# Altium footprint library LPC4300.PCBLIB: 5 footprints
Each footprint in its own frame and in the unit in brackets; x right, y up, seen from the top. Pads: shape width x height; smd on the part's side, far side on the other; paste and mask are expansions set on the pad; w line width, h text height; cw(c..) or ccw(c..) is an arc to the next point about the centre after c.
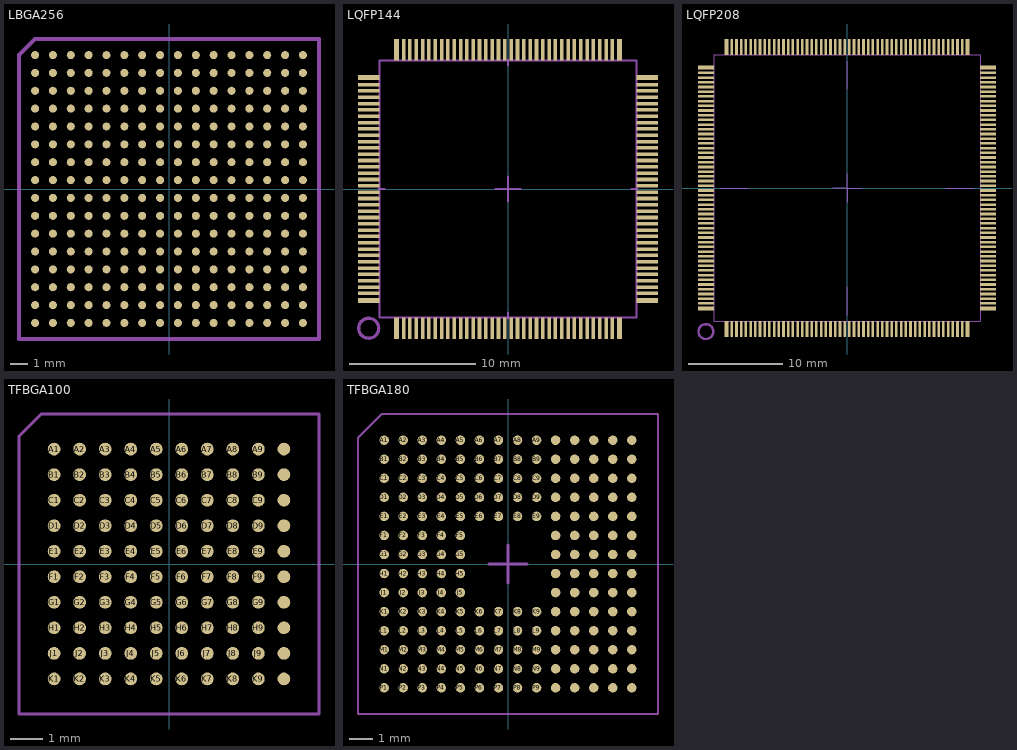
[diagram p0: the footprints below, top view; thin cyan lines are the x and y axes]

## LBGA256 [mm]
pads (256):
  rrect100% 0.45x0.45 smd: A1(-7.5,7.5) A2(-6.5,7.5) A3(-5.5,7.5) A4(-4.5,7.5) A5(-3.5,7.5) A6(-2.5,7.5) A7(-1.5,7.5) A8(-0.5,7.5) A9(0.5,7.5) A10(1.5,7.5) A11(2.5,7.5) A12(3.5,7.5) A13(4.5,7.5) A14(5.5,7.5) A15(6.5,7.5) A16(7.5,7.5) B1(-7.5,6.5) B2(-6.5,6.5) B3(-5.5,6.5) B4(-4.5,6.5) B5(-3.5,6.5) B6(-2.5,6.5) B7(-1.5,6.5) B8(-0.5,6.5) B9(0.5,6.5) B10(1.5,6.5) B11(2.5,6.5) B12(3.5,6.5) B13(4.5,6.5) B14(5.5,6.5) B15(6.5,6.5) B16(7.5,6.5) C1(-7.5,5.5) C2(-6.5,5.5) C3(-5.5,5.5) C4(-4.5,5.5) C5(-3.5,5.5) C6(-2.5,5.5) C7(-1.5,5.5) C8(-0.5,5.5) C9(0.5,5.5) C10(1.5,5.5) C11(2.5,5.5) C12(3.5,5.5) C13(4.5,5.5) C14(5.5,5.5) C15(6.5,5.5) C16(7.5,5.5) D1(-7.5,4.5) D2(-6.5,4.5) D3(-5.5,4.5) D4(-4.5,4.5) D5(-3.5,4.5) D6(-2.5,4.5) D7(-1.5,4.5) D8(-0.5,4.5) D9(0.5,4.5) D10(1.5,4.5) D11(2.5,4.5) D12(3.5,4.5) D13(4.5,4.5) D14(5.5,4.5) D15(6.5,4.5) D16(7.5,4.5) E1(-7.5,3.5) E2(-6.5,3.5) E3(-5.5,3.5) E4(-4.5,3.5) E5(-3.5,3.5) E6(-2.5,3.5) E7(-1.5,3.5) E8(-0.5,3.5) E9(0.5,3.5) E10(1.5,3.5) E11(2.5,3.5) E12(3.5,3.5) E13(4.5,3.5) E14(5.5,3.5) E15(6.5,3.5) E16(7.5,3.5) F1(-7.5,2.5) F2(-6.5,2.5) F3(-5.5,2.5) F4(-4.5,2.5) F5(-3.5,2.5) F6(-2.5,2.5) F7(-1.5,2.5) F8(-0.5,2.5) F9(0.5,2.5) F10(1.5,2.5) F11(2.5,2.5) F12(3.5,2.5) F13(4.5,2.5) F14(5.5,2.5) F15(6.5,2.5) F16(7.5,2.5) G1(-7.5,1.5) G2(-6.5,1.5) G3(-5.5,1.5) G4(-4.5,1.5) G5(-3.5,1.5) G6(-2.5,1.5) G7(-1.5,1.5) G8(-0.5,1.5) G9(0.5,1.5) G10(1.5,1.5) G11(2.5,1.5) G12(3.5,1.5) G13(4.5,1.5) G14(5.5,1.5) G15(6.5,1.5) G16(7.5,1.5) H1(-7.5,0.5) H2(-6.5,0.5) H3(-5.5,0.5) H4(-4.5,0.5) H5(-3.5,0.5) H6(-2.5,0.5) H7(-1.5,0.5) H8(-0.5,0.5) H9(0.5,0.5) H10(1.5,0.5) H11(2.5,0.5) H12(3.5,0.5) H13(4.5,0.5) H14(5.5,0.5) H15(6.5,0.5) H16(7.5,0.5) J1(-7.5,-0.5) J2(-6.5,-0.5) J3(-5.5,-0.5) J4(-4.5,-0.5) J5(-3.5,-0.5) J6(-2.5,-0.5) J7(-1.5,-0.5) J8(-0.5,-0.5) J9(0.5,-0.5) J10(1.5,-0.5) J11(2.5,-0.5) J12(3.5,-0.5) J13(4.5,-0.5) J14(5.5,-0.5) J15(6.5,-0.5) J16(7.5,-0.5) K1(-7.5,-1.5) K2(-6.5,-1.5) K3(-5.5,-1.5) K4(-4.5,-1.5) K5(-3.5,-1.5) K6(-2.5,-1.5) K7(-1.5,-1.5) K8(-0.5,-1.5) K9(0.5,-1.5) K10(1.5,-1.5) K11(2.5,-1.5) K12(3.5,-1.5) K13(4.5,-1.5) K14(5.5,-1.5) K15(6.5,-1.5) K16(7.5,-1.5) L1(-7.5,-2.5) L2(-6.5,-2.5) L3(-5.5,-2.5) L4(-4.5,-2.5) L5(-3.5,-2.5) L6(-2.5,-2.5) L7(-1.5,-2.5) L8(-0.5,-2.5) L9(0.5,-2.5) L10(1.5,-2.5) L11(2.5,-2.5) L12(3.5,-2.5) L13(4.5,-2.5) L14(5.5,-2.5) L15(6.5,-2.5) L16(7.5,-2.5) M1(-7.5,-3.5) M2(-6.5,-3.5) M3(-5.5,-3.5) M4(-4.5,-3.5) M5(-3.5,-3.5) M6(-2.5,-3.5) M7(-1.5,-3.5) M8(-0.5,-3.5) M9(0.5,-3.5) M10(1.5,-3.5) M11(2.5,-3.5) M12(3.5,-3.5) M13(4.5,-3.5) M14(5.5,-3.5) M15(6.5,-3.5) M16(7.5,-3.5) N1(-7.5,-4.5) N2(-6.5,-4.5) N3(-5.5,-4.5) N4(-4.5,-4.5) N5(-3.5,-4.5) N6(-2.5,-4.5) N7(-1.5,-4.5) N8(-0.5,-4.5) N9(0.5,-4.5) N10(1.5,-4.5) N11(2.5,-4.5) N12(3.5,-4.5) N13(4.5,-4.5) N14(5.5,-4.5) N15(6.5,-4.5) N16(7.5,-4.5) P1(-7.5,-5.5) P2(-6.5,-5.5) P3(-5.5,-5.5) P4(-4.5,-5.5) P5(-3.5,-5.5) P6(-2.5,-5.5) P7(-1.5,-5.5) P8(-0.5,-5.5) P9(0.5,-5.5) P10(1.5,-5.5) P11(2.5,-5.5) P12(3.5,-5.5) P13(4.5,-5.5) P14(5.5,-5.5) P15(6.5,-5.5) P16(7.5,-5.5) R1(-7.5,-6.5) R2(-6.5,-6.5) R3(-5.5,-6.5) R4(-4.5,-6.5) R5(-3.5,-6.5) R6(-2.5,-6.5) R7(-1.5,-6.5) R8(-0.5,-6.5) R9(0.5,-6.5) R10(1.5,-6.5) R11(2.5,-6.5) R12(3.5,-6.5) R13(4.5,-6.5) R14(5.5,-6.5) R15(6.5,-6.5) R16(7.5,-6.5) T1(-7.5,-7.5) T2(-6.5,-7.5) T3(-5.5,-7.5) T4(-4.5,-7.5) T5(-3.5,-7.5) T6(-2.5,-7.5) T7(-1.5,-7.5) T8(-0.5,-7.5) T9(0.5,-7.5) T10(1.5,-7.5) T11(2.5,-7.5) T12(3.5,-7.5) T13(4.5,-7.5) T14(5.5,-7.5) T15(6.5,-7.5) T16(7.5,-7.5)
Top Solder:
  drawing of 256 lines, arcs and shapes, not listed
Mechanical 7:
  lines w0.203: -8.399,-8.399 8.399,-8.399 8.399,8.399 -7.5,8.399 -8.399,7.5 -8.399,-8.399

## LQFP144 [mm]
pads (144):
  rrect10% 0.4x1.7 smd: P1(-8.81,-11) P36(8.81,-11) P73(8.81,11) P108(-8.81,11)
  rrect10% 0.28x1.7 smd: P2(-8.25,-11) P3(-7.75,-11) P4(-7.25,-11) P5(-6.75,-11) P6(-6.25,-11) P7(-5.75,-11) P8(-5.25,-11) P9(-4.75,-11) P10(-4.25,-11) P11(-3.75,-11) P12(-3.25,-11) P13(-2.75,-11) P14(-2.25,-11) P15(-1.75,-11) P16(-1.25,-11) P17(-0.75,-11) P18(-0.25,-11) P19(0.25,-11) P20(0.75,-11) P21(1.25,-11) P22(1.75,-11) P23(2.25,-11) P24(2.75,-11) P25(3.25,-11) P26(3.75,-11) P27(4.25,-11) P28(4.75,-11) P29(5.25,-11) P30(5.75,-11) P31(6.25,-11) P32(6.75,-11) P33(7.25,-11) P34(7.75,-11) P35(8.25,-11) P74(8.25,11) P75(7.75,11) P76(7.25,11) P77(6.75,11) P78(6.25,11) P79(5.75,11) P80(5.25,11) P81(4.75,11) P82(4.25,11) P83(3.75,11) P84(3.25,11) P85(2.75,11) P86(2.25,11) P87(1.75,11) P88(1.25,11) P89(0.75,11) P90(0.25,11) P91(-0.25,11) P92(-0.75,11) P93(-1.25,11) P94(-1.75,11) P95(-2.25,11) P96(-2.75,11) P97(-3.25,11) P98(-3.75,11) P99(-4.25,11) P100(-4.75,11) P101(-5.25,11) P102(-5.75,11) P103(-6.25,11) P104(-6.75,11) P105(-7.25,11) P106(-7.75,11) P107(-8.25,11)
  rrect10% 1.7x0.4 smd: P37(11,-8.81) P72(11,8.81) P109(-11,8.81) P144(-11,-8.81)
  rrect10% 1.7x0.28 smd: P38(11,-8.25) P39(11,-7.75) P40(11,-7.25) P41(11,-6.75) P42(11,-6.25) P43(11,-5.75) P44(11,-5.25) P45(11,-4.75) P46(11,-4.25) P47(11,-3.75) P48(11,-3.25) P49(11,-2.75) P50(11,-2.25) P51(11,-1.75) P52(11,-1.25) P53(11,-0.75) P54(11,-0.25) P55(11,0.25) P56(11,0.75) P57(11,1.25) P58(11,1.75) P59(11,2.25) P60(11,2.75) P61(11,3.25) P62(11,3.75) P63(11,4.25) P64(11,4.75) P65(11,5.25) P66(11,5.75) P67(11,6.25) P68(11,6.75) P69(11,7.25) P70(11,7.75) P71(11,8.25) P110(-11,8.25) P111(-11,7.75) P112(-11,7.25) P113(-11,6.75) P114(-11,6.25) P115(-11,5.75) P116(-11,5.25) P117(-11,4.75) P118(-11,4.25) P119(-11,3.75) P120(-11,3.25) P121(-11,2.75) P122(-11,2.25) P123(-11,1.75) P124(-11,1.25) P125(-11,0.75) P126(-11,0.25) P127(-11,-0.25) P128(-11,-0.75) P129(-11,-1.25) P130(-11,-1.75) P131(-11,-2.25) P132(-11,-2.75) P133(-11,-3.25) P134(-11,-3.75) P135(-11,-4.25) P136(-11,-4.75) P137(-11,-5.25) P138(-11,-5.75) P139(-11,-6.25) P140(-11,-6.75) P141(-11,-7.25) P142(-11,-7.75) P143(-11,-8.25)
Mechanical 7:
  circle w0.25: c-11,-11 r0.79
  lines w0.127: -10.25,0 -9.75,0 ; -1,0 1,0 ; 0,-10.25 0,-9.75 ; 0,-1 0,1 ; 0,9.75 0,10.25 ; 9.75,0 10.25,0 ; -10.15,-10.15 -10.15,10.15 10.15,10.15 10.15,-10.15 -10.15,-10.15
  text "37" at 11.5,-9.25 h0.94
  text "36" at 9.25,-10.5 h0.94
  text "72" at 10.5,9.25 h0.94
  text "73" at 9.25,11.25 h0.94
  text "108" at -9.25,10.5 h0.94
  text "109" at -11.75,9.25 h0.94
  text "144" at -10.5,-9.25 h0.94
  text "1" at -9.25,-11 h0.94

## LQFP208 [mm]
pads (208):
  rrect10% 0.4x1.7 smd: P1(-12.81,-15) P52(12.81,-15) P105(12.81,15) P156(-12.81,15)
  rrect10% 0.28x1.7 smd: P2(-12.25,-15) P3(-11.75,-15) P4(-11.25,-15) P5(-10.75,-15) P6(-10.25,-15) P7(-9.75,-15) P8(-9.25,-15) P9(-8.75,-15) P10(-8.25,-15) P11(-7.75,-15) P12(-7.25,-15) P13(-6.75,-15) P14(-6.25,-15) P15(-5.75,-15) P16(-5.25,-15) P17(-4.75,-15) P18(-4.25,-15) P19(-3.75,-15) P20(-3.25,-15) P21(-2.75,-15) P22(-2.25,-15) P23(-1.75,-15) P24(-1.25,-15) P25(-0.75,-15) P26(-0.25,-15) P27(0.25,-15) P28(0.75,-15) P29(1.25,-15) P30(1.75,-15) P31(2.25,-15) P32(2.75,-15) P33(3.25,-15) P34(3.75,-15) P35(4.25,-15) P36(4.75,-15) P37(5.25,-15) P38(5.75,-15) P39(6.25,-15) P40(6.75,-15) P41(7.25,-15) P42(7.75,-15) P43(8.25,-15) P44(8.75,-15) P45(9.25,-15) P46(9.75,-15) P47(10.25,-15) P48(10.75,-15) P49(11.25,-15) P50(11.75,-15) P51(12.25,-15) P106(12.25,15) P107(11.75,15) P108(11.25,15) P109(10.75,15) P110(10.25,15) P111(9.75,15) P112(9.25,15) P113(8.75,15) P114(8.25,15) P115(7.75,15) P116(7.25,15) P117(6.75,15) P118(6.25,15) P119(5.75,15) P120(5.25,15) P121(4.75,15) P122(4.25,15) P123(3.75,15) P124(3.25,15) P125(2.75,15) P126(2.25,15) P127(1.75,15) P128(1.25,15) P129(0.75,15) P130(0.25,15) P131(-0.25,15) P132(-0.75,15) P133(-1.25,15) P134(-1.75,15) P135(-2.25,15) P136(-2.75,15) P137(-3.25,15) P138(-3.75,15) P139(-4.25,15) P140(-4.75,15) P141(-5.25,15) P142(-5.75,15) P143(-6.25,15) P144(-6.75,15) P145(-7.25,15) P146(-7.75,15) P147(-8.25,15) P148(-8.75,15) P149(-9.25,15) P150(-9.75,15) P151(-10.25,15) P152(-10.75,15) P153(-11.25,15) P154(-11.75,15) P155(-12.25,15)
  rrect10% 1.7x0.4 smd: P53(15,-12.81) P104(15,12.81) P157(-15,12.81) P208(-15,-12.81)
  rrect10% 1.7x0.28 smd: P54(15,-12.25) P55(15,-11.75) P56(15,-11.25) P57(15,-10.75) P58(15,-10.25) P59(15,-9.75) P60(15,-9.25) P61(15,-8.75) P62(15,-8.25) P63(15,-7.75) P64(15,-7.25) P65(15,-6.75) P66(15,-6.25) P67(15,-5.75) P68(15,-5.25) P69(15,-4.75) P70(15,-4.25) P71(15,-3.75) P72(15,-3.25) P73(15,-2.75) P74(15,-2.25) P75(15,-1.75) P76(15,-1.25) P77(15,-0.75) P78(15,-0.25) P79(15,0.25) P80(15,0.75) P81(15,1.25) P82(15,1.75) P83(15,2.25) P84(15,2.75) P85(15,3.25) P86(15,3.75) P87(15,4.25) P88(15,4.75) P89(15,5.25) P90(15,5.75) P91(15,6.25) P92(15,6.75) P93(15,7.25) P94(15,7.75) P95(15,8.25) P96(15,8.75) P97(15,9.25) P98(15,9.75) P99(15,10.25) P100(15,10.75) P101(15,11.25) P102(15,11.75) P103(15,12.25) P158(-15,12.25) P159(-15,11.75) P160(-15,11.25) P161(-15,10.75) P162(-15,10.25) P163(-15,9.75) P164(-15,9.25) P165(-15,8.75) P166(-15,8.25) P167(-15,7.75) P168(-15,7.25) P169(-15,6.75) P170(-15,6.25) P171(-15,5.75) P172(-15,5.25) P173(-15,4.75) P174(-15,4.25) P175(-15,3.75) P176(-15,3.25) P177(-15,2.75) P178(-15,2.25) P179(-15,1.75) P180(-15,1.25) P181(-15,0.75) P182(-15,0.25) P183(-15,-0.25) P184(-15,-0.75) P185(-15,-1.25) P186(-15,-1.75) P187(-15,-2.25) P188(-15,-2.75) P189(-15,-3.25) P190(-15,-3.75) P191(-15,-4.25) P192(-15,-4.75) P193(-15,-5.25) P194(-15,-5.75) P195(-15,-6.25) P196(-15,-6.75) P197(-15,-7.25) P198(-15,-7.75) P199(-15,-8.25) P200(-15,-8.75) P201(-15,-9.25) P202(-15,-9.75) P203(-15,-10.25) P204(-15,-10.75) P205(-15,-11.25) P206(-15,-11.75) P207(-15,-12.25)
Mechanical 7:
  circle w0.25: c-15,-15.25 r0.79
  lines w0.1: -13.5,0 -10.5,0 ; 0,-13.5 0,-10.5 ; 0,10.5 0,13.5 ; 10.5,0 13.5,0 ; -14.15,-14.15 -14.15,14.15 14.15,14.15 14.15,-14.15 -14.15,-14.15
  lines w0.127: -1.5,0 0,0 ; 0,-1.5 0,0 ; 0,1.5 0,0 ; 1.5,0 0,0
  text "53" at 15.5,-13.25 h0.94
  text "52" at 13.25,-14.5 h0.94
  text "104" at 14.25,13.25 h0.94
  text "105" at 13.25,15.75 h0.94
  text "156" at -13.25,14.25 h0.94
  text "157" at -15.75,13.25 h0.94
  text "208" at -14.5,-13.25 h0.94
  text "1" at -13.25,-15 h0.94

## TFBGA100 [mm]
pads (100):
  rrect100% 0.4x0.4 smd: A1(-3.6,3.6) A2(-2.8,3.6) A3(-2,3.6) A4(-1.2,3.6) A5(-0.4,3.6) A6(0.4,3.6) A7(1.2,3.6) A8(2,3.6) A9(2.8,3.6) A10(3.6,3.6) B1(-3.6,2.8) B2(-2.8,2.8) B3(-2,2.8) B4(-1.2,2.8) B5(-0.4,2.8) B6(0.4,2.8) B7(1.2,2.8) B8(2,2.8) B9(2.8,2.8) B10(3.6,2.8) C1(-3.6,2) C2(-2.8,2) C3(-2,2) C4(-1.2,2) C5(-0.4,2) C6(0.4,2) C7(1.2,2) C8(2,2) C9(2.8,2) C10(3.6,2) D1(-3.6,1.2) D2(-2.8,1.2) D3(-2,1.2) D4(-1.2,1.2) D5(-0.4,1.2) D6(0.4,1.2) D7(1.2,1.2) D8(2,1.2) D9(2.8,1.2) D10(3.6,1.2) E1(-3.6,0.4) E2(-2.8,0.4) E3(-2,0.4) E4(-1.2,0.4) E5(-0.4,0.4) E6(0.4,0.4) E7(1.2,0.4) E8(2,0.4) E9(2.8,0.4) E10(3.6,0.4) F1(-3.6,-0.4) F2(-2.8,-0.4) F3(-2,-0.4) F4(-1.2,-0.4) F5(-0.4,-0.4) F6(0.4,-0.4) F7(1.2,-0.4) F8(2,-0.4) F9(2.8,-0.4) F10(3.6,-0.4) G1(-3.6,-1.2) G2(-2.8,-1.2) G3(-2,-1.2) G4(-1.2,-1.2) G5(-0.4,-1.2) G6(0.4,-1.2) G7(1.2,-1.2) G8(2,-1.2) G9(2.8,-1.2) G10(3.6,-1.2) H1(-3.6,-2) H2(-2.8,-2) H3(-2,-2) H4(-1.2,-2) H5(-0.4,-2) H6(0.4,-2) H7(1.2,-2) H8(2,-2) H9(2.8,-2) H10(3.6,-2) J1(-3.6,-2.8) J2(-2.8,-2.8) J3(-2,-2.8) J4(-1.2,-2.8) J5(-0.4,-2.8) J6(0.4,-2.8) J7(1.2,-2.8) J8(2,-2.8) J9(2.8,-2.8) J10(3.6,-2.8) K1(-3.6,-3.6) K2(-2.8,-3.6) K3(-2,-3.6) K4(-1.2,-3.6) K5(-0.4,-3.6) K6(0.4,-3.6) K7(1.2,-3.6) K8(2,-3.6) K9(2.8,-3.6) K10(3.6,-3.6)
Mechanical 7:
  lines w0.1: -4.7,-4.7 4.7,-4.7 4.7,4.7 -4,4.7 -4.7,4 -4.7,-4.7

## TFBGA180 [mm]
pads (180):
  rrect100% 0.4x0.4 smd: A1(-5.2,5.2) A2(-4.4,5.2) A3(-3.6,5.2) A4(-2.8,5.2) A5(-2,5.2) A6(-1.2,5.2) A7(-0.4,5.2) A8(0.4,5.2) A9(1.2,5.2) A10(2,5.2) A11(2.8,5.2) A12(3.6,5.2) A13(4.4,5.2) A14(5.2,5.2) B1(-5.2,4.4) B2(-4.4,4.4) B3(-3.6,4.4) B4(-2.8,4.4) B5(-2,4.4) B6(-1.2,4.4) B7(-0.4,4.4) B8(0.4,4.4) B9(1.2,4.4) B10(2,4.4) B11(2.8,4.4) B12(3.6,4.4) B13(4.4,4.4) B14(5.2,4.4) C1(-5.2,3.6) C2(-4.4,3.6) C3(-3.6,3.6) C4(-2.8,3.6) C5(-2,3.6) C6(-1.2,3.6) C7(-0.4,3.6) C8(0.4,3.6) C9(1.2,3.6) C10(2,3.6) C11(2.8,3.6) C12(3.6,3.6) C13(4.4,3.6) C14(5.2,3.6) D1(-5.2,2.8) D2(-4.4,2.8) D3(-3.6,2.8) D4(-2.8,2.8) D5(-2,2.8) D6(-1.2,2.8) D7(-0.4,2.8) D8(0.4,2.8) D9(1.2,2.8) D10(2,2.8) D11(2.8,2.8) D12(3.6,2.8) D13(4.4,2.8) D14(5.2,2.8) E1(-5.2,2) E2(-4.4,2) E3(-3.6,2) E4(-2.8,2) E5(-2,2) E6(-1.2,2) E7(-0.4,2) E8(0.4,2) E9(1.2,2) E10(2,2) E11(2.8,2) E12(3.6,2) E13(4.4,2) E14(5.2,2) F1(-5.2,1.2) F2(-4.4,1.2) F3(-3.6,1.2) F4(-2.8,1.2) F5(-2,1.2) F10(2,1.2) F11(2.8,1.2) F12(3.6,1.2) F13(4.4,1.2) F14(5.2,1.2) G1(-5.2,0.4) G2(-4.4,0.4) G3(-3.6,0.4) G4(-2.8,0.4) G5(-2,0.4) G10(2,0.4) G11(2.8,0.4) G12(3.6,0.4) G13(4.4,0.4) G14(5.2,0.4) H1(-5.2,-0.4) H2(-4.4,-0.4) H3(-3.6,-0.4) H4(-2.8,-0.4) H5(-2,-0.4) H10(2,-0.4) H11(2.8,-0.4) H12(3.6,-0.4) H13(4.4,-0.4) H14(5.2,-0.4) J1(-5.2,-1.2) J2(-4.4,-1.2) J3(-3.6,-1.2) J4(-2.8,-1.2) J5(-2,-1.2) J10(2,-1.2) J11(2.8,-1.2) J12(3.6,-1.2) J13(4.4,-1.2) J14(5.2,-1.2) K1(-5.2,-2) K2(-4.4,-2) K3(-3.6,-2) K4(-2.8,-2) K5(-2,-2) K6(-1.2,-2) K7(-0.4,-2) K8(0.4,-2) K9(1.2,-2) K10(2,-2) K11(2.8,-2) K12(3.6,-2) K13(4.4,-2) K14(5.2,-2) L1(-5.2,-2.8) L2(-4.4,-2.8) L3(-3.6,-2.8) L4(-2.8,-2.8) L5(-2,-2.8) L6(-1.2,-2.8) L7(-0.4,-2.8) L8(0.4,-2.8) L9(1.2,-2.8) L10(2,-2.8) L11(2.8,-2.8) L12(3.6,-2.8) L13(4.4,-2.8) L14(5.2,-2.8) M1(-5.2,-3.6) M2(-4.4,-3.6) M3(-3.6,-3.6) M4(-2.8,-3.6) M5(-2,-3.6) M6(-1.2,-3.6) M7(-0.4,-3.6) M8(0.4,-3.6) M9(1.2,-3.6) M10(2,-3.6) M11(2.8,-3.6) M12(3.6,-3.6) M13(4.4,-3.6) M14(5.2,-3.6) N1(-5.2,-4.4) N2(-4.4,-4.4) N3(-3.6,-4.4) N4(-2.8,-4.4) N5(-2,-4.4) N6(-1.2,-4.4) N7(-0.4,-4.4) N8(0.4,-4.4) N9(1.2,-4.4) N10(2,-4.4) N11(2.8,-4.4) N12(3.6,-4.4) N13(4.4,-4.4) N14(5.2,-4.4) P1(-5.2,-5.2) P2(-4.4,-5.2) P3(-3.6,-5.2) P4(-2.8,-5.2) P5(-2,-5.2) P6(-1.2,-5.2) P7(-0.4,-5.2) P8(0.4,-5.2) P9(1.2,-5.2) P10(2,-5.2) P11(2.8,-5.2) P12(3.6,-5.2) P13(4.4,-5.2) P14(5.2,-5.2)
Top Solder:
  drawing of 179 lines, arcs and shapes, not listed
Mechanical 7:
  lines w0.1: -6.3,-6.3 6.3,-6.3 6.3,6.3 -5.3,6.3 -6.3,5.3 -6.3,-6.3
  lines w0.127: -0.8,0 0.8,0 ; 0,-0.8 0,0.8